# Altium footprint library AT42QT2120-SU.PcbLib: 3 footprints
Each footprint in its own frame and in the unit in brackets; x right, y up, seen from the top. Pads: shape width x height; smd on the part's side, far side on the other; paste and mask are expansions set on the pad; w line width, h text height; cw(c..) or ccw(c..) is an arc to the next point about the centre after c.
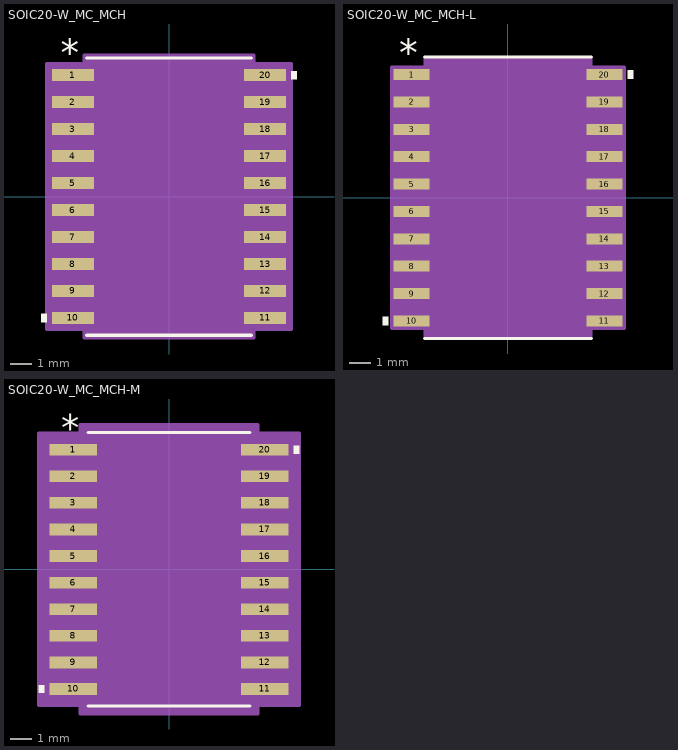
[diagram p0: the footprints below, top view; thin cyan lines are the x and y axes]

## SOIC20-W_MC_MCH [mil]
pads (20):
  rect 78x22 smd paste+0 mask+0: 1(-178,225) 2(-178,175) 3(-178,125) 4(-178,75) 5(-178,25) 6(-178,-25) 7(-178,-75) 8(-178,-125) 9(-178,-175) 10(-178,-225) 11(178,-225) 12(178,-175) 13(178,-125) 14(178,-75) 15(178,-25) 16(178,25) 17(178,75) 18(178,125) 19(178,175) 20(178,225)
Top Overlay:
  region: 227,232.5 237,232.5 237,217.5 227,217.5
  region: -227,-217.5 -237,-217.5 -237,-232.5 -227,-232.5
  lines w6: -152.5,-257 152.5,-257 ; -152.5,257 152.5,257
  text "*" at -200.5,242 h50
Mechanical 13:
  lines w0: -12,252 ccw(c0,252) 12,252
  lines w1: -203,-235 -147.5,-235 -147.5,-215 -203,-215 -203,-235 ; -203,-185 -147.5,-185 -147.5,-165 -203,-165 -203,-185 ; -203,-135 -147.5,-135 -147.5,-115 -203,-115 -203,-135 ; -203,-85 -147.5,-85 -147.5,-65 -203,-65 -203,-85 ; -203,-35 -147.5,-35 -147.5,-15 -203,-15 -203,-35 ; -203,15 -147.5,15 -147.5,35 -203,35 -203,15 ; -203,65 -147.5,65 -147.5,85 -203,85 -203,65 ; -203,115 -147.5,115 -147.5,135 -203,135 -203,115 ; -203,165 -147.5,165 -147.5,185 -203,185 -203,165 ; -203,215 -147.5,215 -147.5,235 -203,235 -203,215 ; -147.5,-252 -147.5,252 147.5,252 147.5,-252 -147.5,-252 ; 147.5,-235 203,-235 203,-215 147.5,-215 147.5,-235 ; 147.5,-185 203,-185 203,-165 147.5,-165 147.5,-185 ; 147.5,-135 203,-135 203,-115 147.5,-115 147.5,-135 ; 147.5,-85 203,-85 203,-65 147.5,-65 147.5,-85 ; 147.5,-35 203,-35 203,-15 147.5,-15 147.5,-35 ; 147.5,15 203,15 203,35 147.5,35 147.5,15 ; 147.5,65 203,65 203,85 147.5,85 147.5,65 ; 147.5,115 203,115 203,135 147.5,135 147.5,115 ; 147.5,165 203,165 203,185 147.5,185 147.5,165 ; 147.5,215 203,215 203,235 147.5,235 147.5,215
  text "*" at -145,199 h50
Mechanical 15:
  region: -157.5,-246 -227,-246 -227,246 -157.5,246 -157.5,262 157.5,262 157.5,246 227,246 227,-246 157.5,-246 157.5,-262 -157.5,-262
  lines w6: -227,-246 -157.5,-246 -157.5,-262 157.5,-262 157.5,-246 227,-246 227,246 157.5,246 157.5,262 -157.5,262 -157.5,246 -227,246 -227,-246
3D body "SOIC20-W_MC_MCH.step": height 104.09, standoff 0, extent -202.99,-252.01 202.99,252.01

## SOIC20-W_MC_MCH-L [mil]
pads (20):
  rect 66x20 smd paste+0 mask+0: 1(-176,225) 2(-176,175) 3(-176,125) 4(-176,75) 5(-176,25) 6(-176,-25) 7(-176,-75) 8(-176,-125) 9(-176,-175) 10(-176,-225) 11(176,-225) 12(176,-175) 13(176,-125) 14(176,-75) 15(176,-25) 16(176,25) 17(176,75) 18(176,125) 19(176,175) 20(176,225)
Top Overlay:
  region: -219,-217.5 -229,-217.5 -229,-232.5 -219,-232.5
  region: 219,232.5 229,232.5 229,217.5 219,217.5
  lines w6: -152.5,-257 152.5,-257 ; -152.5,257 152.5,257
  text "*" at -198.5,240 h50
Mechanical 13:
  lines w0: -12,252 ccw(c0,252) 12,252
  lines w1: -203,-235 -203,-215 -147.5,-215 -147.5,-235 -203,-235 ; -203,-185 -203,-165 -147.5,-165 -147.5,-185 -203,-185 ; -203,-135 -203,-115 -147.5,-115 -147.5,-135 -203,-135 ; -203,-85 -203,-65 -147.5,-65 -147.5,-85 -203,-85 ; -203,-35 -203,-15 -147.5,-15 -147.5,-35 -203,-35 ; -203,15 -203,35 -147.5,35 -147.5,15 -203,15 ; -203,65 -203,85 -147.5,85 -147.5,65 -203,65 ; -203,115 -203,135 -147.5,135 -147.5,115 -203,115 ; -203,165 -203,185 -147.5,185 -147.5,165 -203,165 ; -203,215 -203,235 -147.5,235 -147.5,215 -203,215 ; -147.5,-252 147.5,-252 147.5,252 -147.5,252 -147.5,-252 ; 147.5,-235 147.5,-215 203,-215 203,-235 147.5,-235 ; 147.5,-185 147.5,-165 203,-165 203,-185 147.5,-185 ; 147.5,-135 147.5,-115 203,-115 203,-135 147.5,-135 ; 147.5,-85 147.5,-65 203,-65 203,-85 147.5,-85 ; 147.5,-35 147.5,-15 203,-15 203,-35 147.5,-35 ; 147.5,15 147.5,35 203,35 203,15 147.5,15 ; 147.5,65 147.5,85 203,85 203,65 147.5,65 ; 147.5,115 147.5,135 203,135 203,115 147.5,115 ; 147.5,165 147.5,185 203,185 203,165 147.5,165 ; 147.5,215 147.5,235 203,235 203,215 147.5,215
  text "*" at -145,199 h50
Mechanical 15:
  region: -151.5,-239 -213,-239 -213,239 -151.5,239 -151.5,256 151.5,256 151.5,239 213,239 213,-239 151.5,-239 151.5,-256 -151.5,-256
  lines w6: -213,-239 -213,239 -151.5,239 -151.5,256 151.5,256 151.5,239 213,239 213,-239 151.5,-239 151.5,-256 -151.5,-256 -151.5,-239 -213,-239
3D body "SOIC20-W_MC_MCH.step": height 104.09, standoff 0, extent -202.99,-252.01 202.99,252.01

## SOIC20-W_MC_MCH-M [mil]
pads (20):
  rect 90x22 smd paste+0 mask+0: 1(-180,225) 2(-180,175) 3(-180,125) 4(-180,75) 5(-180,25) 6(-180,-25) 7(-180,-75) 8(-180,-125) 9(-180,-175) 10(-180,-225) 11(180,-225) 12(180,-175) 13(180,-125) 14(180,-75) 15(180,-25) 16(180,25) 17(180,75) 18(180,125) 19(180,175) 20(180,225)
Top Overlay:
  region: 235,232.5 245,232.5 245,217.5 235,217.5
  region: -235,-217.5 -245,-217.5 -245,-232.5 -235,-232.5
  lines w6: -152.5,-257 152.5,-257 ; -152.5,257 152.5,257
  text "*" at -202.5,242 h50
Mechanical 13:
  lines w0: -12,252 ccw(c0,252) 12,252
  lines w1: -203,-235 -147.5,-235 -147.5,-215 -203,-215 -203,-235 ; -203,-185 -147.5,-185 -147.5,-165 -203,-165 -203,-185 ; -203,-135 -147.5,-135 -147.5,-115 -203,-115 -203,-135 ; -203,-85 -147.5,-85 -147.5,-65 -203,-65 -203,-85 ; -203,-35 -147.5,-35 -147.5,-15 -203,-15 -203,-35 ; -203,15 -147.5,15 -147.5,35 -203,35 -203,15 ; -203,65 -147.5,65 -147.5,85 -203,85 -203,65 ; -203,115 -147.5,115 -147.5,135 -203,135 -203,115 ; -203,165 -147.5,165 -147.5,185 -203,185 -203,165 ; -203,215 -147.5,215 -147.5,235 -203,235 -203,215 ; -147.5,-252 -147.5,252 147.5,252 147.5,-252 -147.5,-252 ; 147.5,-235 203,-235 203,-215 147.5,-215 147.5,-235 ; 147.5,-185 203,-185 203,-165 147.5,-165 147.5,-185 ; 147.5,-135 203,-135 203,-115 147.5,-115 147.5,-135 ; 147.5,-85 203,-85 203,-65 147.5,-65 147.5,-85 ; 147.5,-35 203,-35 203,-15 147.5,-15 147.5,-35 ; 147.5,15 203,15 203,35 147.5,35 147.5,15 ; 147.5,65 203,65 203,85 147.5,85 147.5,65 ; 147.5,115 203,115 203,135 147.5,135 147.5,115 ; 147.5,165 203,165 203,185 147.5,185 147.5,165 ; 147.5,215 203,215 203,235 147.5,235 147.5,215
  text "*" at -145,199 h50
Mechanical 15:
  region: -167.5,-256 -245,-256 -245,256 -167.5,256 -167.5,272 167.5,272 167.5,256 245,256 245,-256 167.5,-256 167.5,-272 -167.5,-272
  lines w6: -245,-256 -167.5,-256 -167.5,-272 167.5,-272 167.5,-256 245,-256 245,256 167.5,256 167.5,272 -167.5,272 -167.5,256 -245,256 -245,-256
3D body "SOIC20-W_MC_MCH.step": height 104.09, standoff 0, extent -202.99,-252.01 202.99,252.01